# Altium schematic symbol library 2020-01-10_06-31-31.SchLib: 1 symbol
Pins are listed as number, name and electrical type; pins without a type are passive.

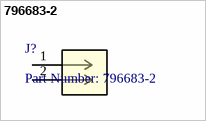
[diagram p0: symbol 796683-2]

## 796683-2
designator J?, comment Part Number: 796683-2
No Description Available; Vendor: TE Connectivity; Built_By: EMA_UL_Team; Manufacturer_Part_Number: 796683-2; Copyright: Copyright (C) 2018 Accelerated Designs. All rights reserved; RefDes: RefDes; Type: DEV; Value: Value
footprint CON2_P5MM_VER_ST
pins: 1, 2